# Altium footprint library Miscellaneous Devices LC.PcbLib: 559 footprints (part 12 of 35)
Each footprint in its own frame and in the unit in brackets; x right, y up, seen from the top. Pads: shape width x height; smd on the part's side, far side on the other; paste and mask are expansions set on the pad; w line width, h text height; cw(c..) or ccw(c..) is an arc to the next point about the centre after c.
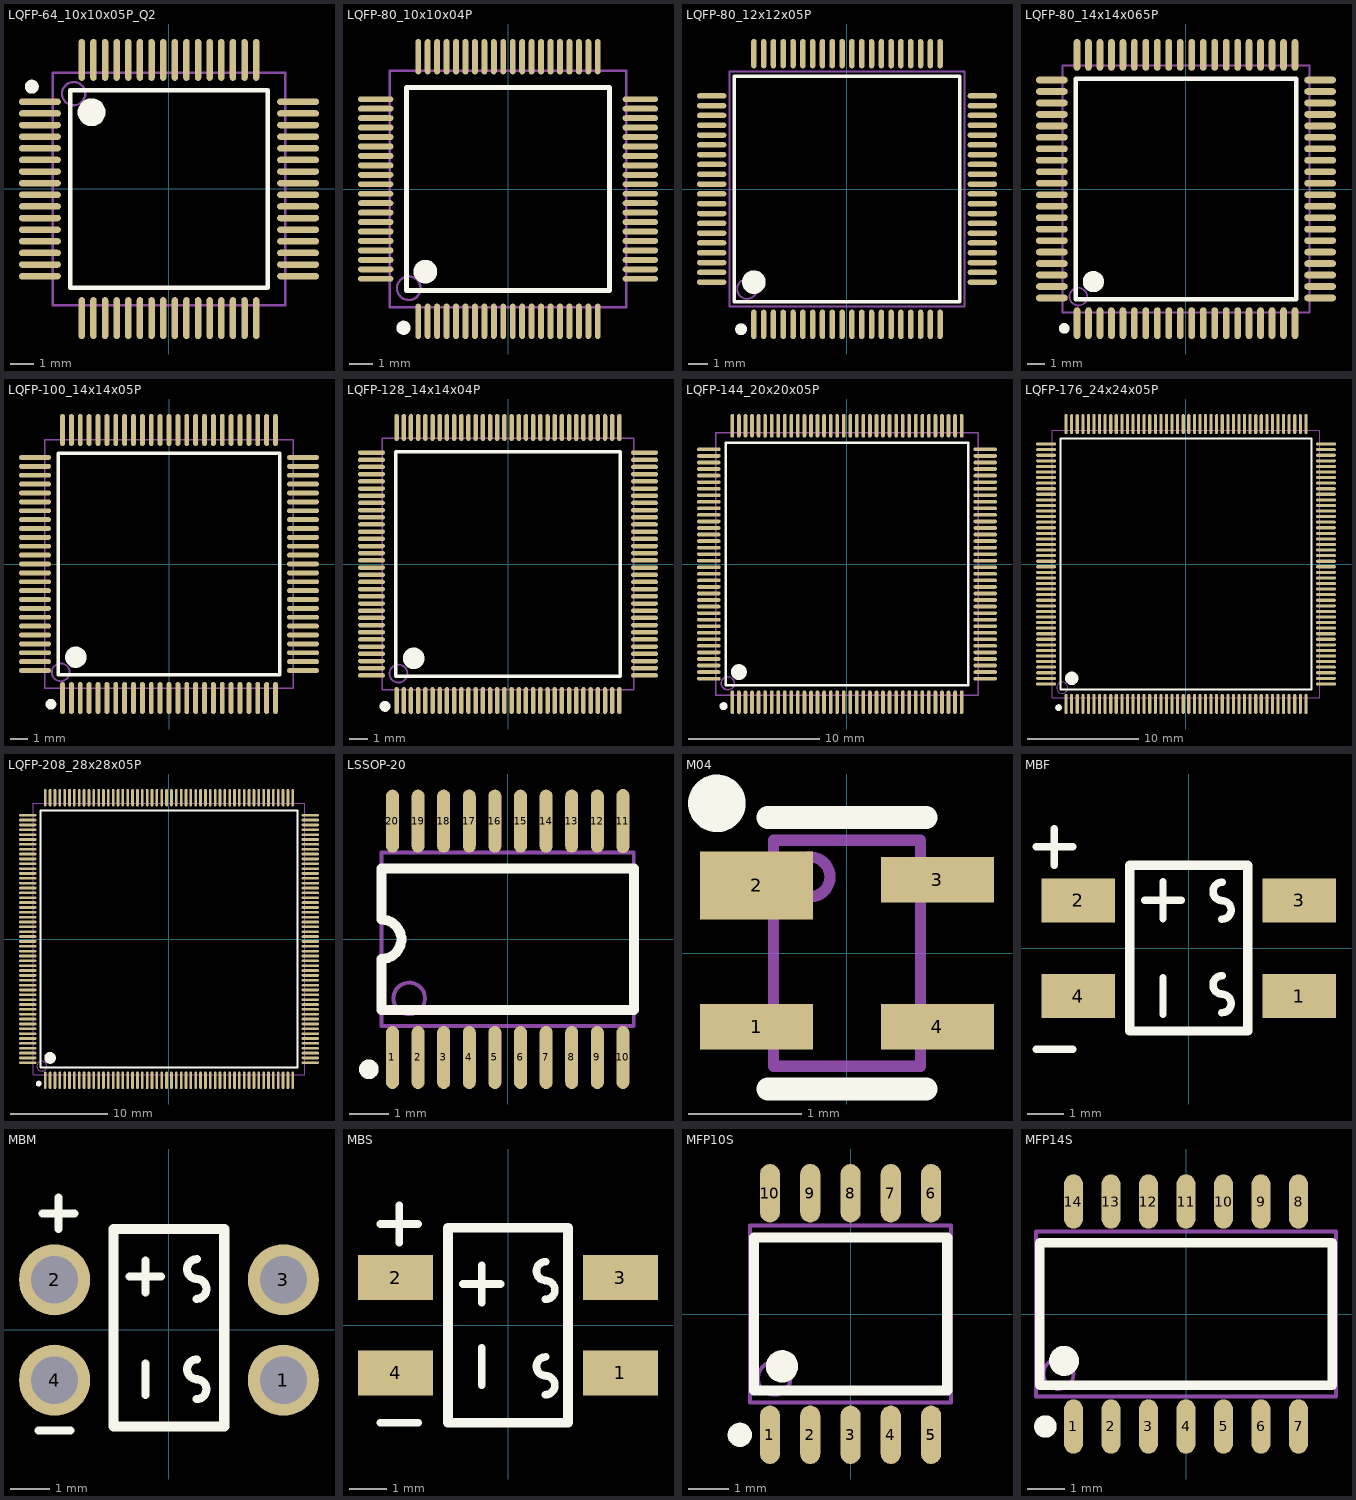
[diagram p11: the footprints below, top view; thin cyan lines are the x and y axes]

## LQFP-64_10x10x05P_Q2 [mm] "编带PIN1 在 Q2"
pads (64):
  oval 1.8x0.28 smd mask+0.051: 1(-5.55,3.75) 2(-5.55,3.25) 3(-5.55,2.75) 4(-5.55,2.25) 5(-5.55,1.75) 6(-5.55,1.25) 7(-5.55,0.75) 8(-5.55,0.25) 9(-5.55,-0.25) 10(-5.55,-0.75) 11(-5.55,-1.25) 12(-5.55,-1.75) 13(-5.55,-2.25) 14(-5.55,-2.75) 15(-5.55,-3.25) 16(-5.55,-3.75) 33(5.55,-3.75) 34(5.55,-3.25) 35(5.55,-2.75) 36(5.55,-2.25) 37(5.55,-1.75) 38(5.55,-1.25) 39(5.55,-0.75) 40(5.55,-0.25) 41(5.55,0.25) 42(5.55,0.75) 43(5.55,1.25) 44(5.55,1.75) 45(5.55,2.25) 46(5.55,2.75) 47(5.55,3.25) 48(5.55,3.75)
  oval 0.28x1.8 smd mask+0.051: 17(-3.75,-5.55) 18(-3.25,-5.55) 19(-2.75,-5.55) 20(-2.25,-5.55) 21(-1.75,-5.55) 22(-1.25,-5.55) 23(-0.75,-5.55) 24(-0.25,-5.55) 25(0.25,-5.55) 26(0.75,-5.55) 27(1.25,-5.55) 28(1.75,-5.55) 29(2.25,-5.55) 30(2.75,-5.55) 31(3.25,-5.55) 32(3.75,-5.55) 49(3.75,5.55) 50(3.25,5.55) 51(2.75,5.55) 52(2.25,5.55) 53(1.75,5.55) 54(1.25,5.55) 55(0.75,5.55) 56(0.25,5.55) 57(-0.25,5.55) 58(-0.75,5.55) 59(-1.25,5.55) 60(-1.75,5.55) 61(-2.25,5.55) 62(-2.75,5.55) 63(-3.25,5.55) 64(-3.75,5.55)
Top Overlay:
  circle w0.6: c-3.325,3.3 r0.3
  circle w0.3: c-5.9,4.4 r0.15
  lines w0.2: -4.25,-4.25 4.25,-4.25 4.25,4.25 -4.25,4.25 -4.25,-4.25
Mechanical 13:
  circle w0.1: c-4.1,4.1 r0.5
  lines w0.1: -5,-5 5,-5 5,5 -5,5 -5,-5
3D body "LQFP-64.STEP": height 1.6, standoff 0, extent -6,-6 6,6

## LQFP-80_10x10x04P [mm]
pads (80):
  oval 0.25x1.5 smd mask+0.051: 1(-3.8,-5.6) 2(-3.4,-5.6) 3(-3,-5.6) 4(-2.6,-5.6) 5(-2.2,-5.6) 6(-1.8,-5.6) 7(-1.4,-5.6) 8(-1,-5.6) 9(-0.6,-5.6) 10(-0.2,-5.6) 11(0.2,-5.6) 12(0.6,-5.6) 13(1,-5.6) 14(1.4,-5.6) 15(1.8,-5.6) 16(2.2,-5.6) 17(2.6,-5.6) 18(3,-5.6) 19(3.4,-5.6) 20(3.8,-5.6) 41(3.8,5.6) 42(3.4,5.6) 43(3,5.6) 44(2.6,5.6) 45(2.2,5.6) 46(1.8,5.6) 47(1.4,5.6) 48(1,5.6) 49(0.6,5.6) 50(0.2,5.6) 51(-0.2,5.6) 52(-0.6,5.6) 53(-1,5.6) 54(-1.4,5.6) 55(-1.8,5.6) 56(-2.2,5.6) 57(-2.6,5.6) 58(-3,5.6) 59(-3.4,5.6) 60(-3.8,5.6)
  oval 1.5x0.25 smd mask+0.051: 21(5.6,-3.8) 22(5.6,-3.4) 23(5.6,-3) 24(5.6,-2.6) 25(5.6,-2.2) 26(5.6,-1.8) 27(5.6,-1.4) 28(5.6,-1) 29(5.6,-0.6) 30(5.6,-0.2) 31(5.6,0.2) 32(5.6,0.6) 33(5.6,1) 34(5.6,1.4) 35(5.6,1.8) 36(5.6,2.2) 37(5.6,2.6) 38(5.6,3) 39(5.6,3.4) 40(5.6,3.8) 61(-5.6,3.8) 62(-5.6,3.4) 63(-5.6,3) 64(-5.6,2.6) 65(-5.6,2.2) 66(-5.6,1.8) 67(-5.6,1.4) 68(-5.6,1) 69(-5.6,0.6) 70(-5.6,0.2) 71(-5.6,-0.2) 72(-5.6,-0.6) 73(-5.6,-1) 74(-5.6,-1.4) 75(-5.6,-1.8) 76(-5.6,-2.2) 77(-5.6,-2.6) 78(-5.6,-3) 79(-5.6,-3.4) 80(-5.6,-3.8)
Top Overlay:
  circle w0.3: c-4.425,-5.875 r0.15
  circle w0.5: c-3.5,-3.5 r0.25
  lines w0.2: -4.3,-4.3 4.3,-4.3 4.3,4.3 -4.3,4.3 -4.3,-4.3
Mechanical 13:
  circle w0.1: c-4.2,-4.2 r0.5
  lines w0.1: -5,-5 5,-5 5,5 -5,5 -5,-5

## LQFP-80_12x12x05P [mm]
pads (80):
  oval 0.28x1.5 smd mask+0.051: 1(-4.75,-6.9) 2(-4.25,-6.9) 3(-3.75,-6.9) 4(-3.25,-6.9) 5(-2.75,-6.9) 6(-2.25,-6.9) 7(-1.75,-6.9) 8(-1.25,-6.9) 9(-0.75,-6.9) 10(-0.25,-6.9) 11(0.25,-6.9) 12(0.75,-6.9) 13(1.25,-6.9) 14(1.75,-6.9) 15(2.25,-6.9) 16(2.75,-6.9) 17(3.25,-6.9) 18(3.75,-6.9) 19(4.25,-6.9) 20(4.75,-6.9) 41(4.75,6.9) 42(4.25,6.9) 43(3.75,6.9) 44(3.25,6.9) 45(2.75,6.9) 46(2.25,6.9) 47(1.75,6.9) 48(1.25,6.9) 49(0.75,6.9) 50(0.25,6.9) 51(-0.25,6.9) 52(-0.75,6.9) 53(-1.25,6.9) 54(-1.75,6.9) 55(-2.25,6.9) 56(-2.75,6.9) 57(-3.25,6.9) 58(-3.75,6.9) 59(-4.25,6.9) 60(-4.75,6.9)
  oval 1.5x0.28 smd mask+0.051: 21(6.9,-4.75) 22(6.9,-4.25) 23(6.9,-3.75) 24(6.9,-3.25) 25(6.9,-2.75) 26(6.9,-2.25) 27(6.9,-1.75) 28(6.9,-1.25) 29(6.9,-0.75) 30(6.9,-0.25) 31(6.9,0.25) 32(6.9,0.75) 33(6.9,1.25) 34(6.9,1.75) 35(6.9,2.25) 36(6.9,2.75) 37(6.9,3.25) 38(6.9,3.75) 39(6.9,4.25) 40(6.9,4.75) 61(-6.9,4.75) 62(-6.9,4.25) 63(-6.9,3.75) 64(-6.9,3.25) 65(-6.9,2.75) 66(-6.9,2.25) 67(-6.9,1.75) 68(-6.9,1.25) 69(-6.9,0.75) 70(-6.9,0.25) 71(-6.9,-0.25) 72(-6.9,-0.75) 73(-6.9,-1.25) 74(-6.9,-1.75) 75(-6.9,-2.25) 76(-6.9,-2.75) 77(-6.9,-3.25) 78(-6.9,-3.75) 79(-6.9,-4.25) 80(-6.9,-4.75)
Top Overlay:
  circle w0.3: c-5.4,-7.15 r0.15
  circle w0.6: c-4.75,-4.75 r0.3
  lines w0.2: -5.75,-5.75 -5.75,5.75 5.75,5.75 5.75,-5.75 -5.75,-5.75
Mechanical 13:
  circle w0.1: c-5.1,-5.1 r0.5
  lines w0.1: -6,-6 -6,6 6,6 6,-6 -6,-6

## LQFP-80_14x14x065P [mm]
pads (80):
  oval 0.38x1.8 smd mask+0.051: 1(-6.175,-7.6) 2(-5.525,-7.6) 3(-4.875,-7.6) 4(-4.225,-7.6) 5(-3.575,-7.6) 6(-2.925,-7.6) 7(-2.275,-7.6) 8(-1.625,-7.6) 9(-0.975,-7.6) 10(-0.325,-7.6) 11(0.325,-7.6) 12(0.975,-7.6) 13(1.625,-7.6) 14(2.275,-7.6) 15(2.925,-7.6) 16(3.575,-7.6) 17(4.225,-7.6) 18(4.875,-7.6) 19(5.525,-7.6) 20(6.175,-7.6) 41(6.175,7.6) 42(5.525,7.6) 43(4.875,7.6) 44(4.225,7.6) 45(3.575,7.6) 46(2.925,7.6) 47(2.275,7.6) 48(1.625,7.6) 49(0.975,7.6) 50(0.325,7.6) 51(-0.325,7.6) 52(-0.975,7.6) 53(-1.625,7.6) 54(-2.275,7.6) 55(-2.925,7.6) 56(-3.575,7.6) 57(-4.225,7.6) 58(-4.875,7.6) 59(-5.525,7.6) 60(-6.175,7.6)
  oval 1.8x0.38 smd mask+0.051: 21(7.6,-6.175) 22(7.6,-5.525) 23(7.6,-4.875) 24(7.6,-4.225) 25(7.6,-3.575) 26(7.6,-2.925) 27(7.6,-2.275) 28(7.6,-1.625) 29(7.6,-0.975) 30(7.6,-0.325) 31(7.6,0.325) 32(7.6,0.975) 33(7.6,1.625) 34(7.6,2.275) 35(7.6,2.925) 36(7.6,3.575) 37(7.6,4.225) 38(7.6,4.875) 39(7.6,5.525) 40(7.6,6.175) 61(-7.6,6.175) 62(-7.6,5.525) 63(-7.6,4.875) 64(-7.6,4.225) 65(-7.6,3.575) 66(-7.6,2.925) 67(-7.6,2.275) 68(-7.6,1.625) 69(-7.6,0.975) 70(-7.6,0.325) 71(-7.6,-0.325) 72(-7.6,-0.975) 73(-7.6,-1.625) 74(-7.6,-2.275) 75(-7.6,-2.925) 76(-7.6,-3.575) 77(-7.6,-4.225) 78(-7.6,-4.875) 79(-7.6,-5.525) 80(-7.6,-6.175)
Top Overlay:
  circle w0.6: c-5.25,-5.25 r0.3
  circle w0.3: c-6.9,-7.9 r0.15
  lines w0.254: -6.25,-6.25 -6.25,6.25 6.25,6.25 6.25,-6.25 -6.25,-6.25
Mechanical 13:
  circle w0.1: c-6.1,-6.1 r0.5
  lines w0.1: -7,-7 -7,7 7,7 7,-7 -7,-7

## LQFP-100_14x14x05P [mm]
pads (100):
  oval 0.28x1.8 smd mask+0.051: 1(-6,-7.55) 2(-5.5,-7.55) 3(-5,-7.55) 4(-4.5,-7.55) 5(-4,-7.55) 6(-3.5,-7.55) 7(-3,-7.55) 8(-2.5,-7.55) 9(-2,-7.55) 10(-1.5,-7.55) 11(-1,-7.55) 12(-0.5,-7.55) 13(0,-7.55) 14(0.5,-7.55) 15(1,-7.55) 16(1.5,-7.55) 17(2,-7.55) 18(2.5,-7.55) 19(3,-7.55) 20(3.5,-7.55) 21(4,-7.55) 22(4.5,-7.55) 23(5,-7.55) 24(5.5,-7.55) 25(6,-7.55) 51(6,7.55) 52(5.5,7.55) 53(5,7.55) 54(4.5,7.55) 55(4,7.55) 56(3.5,7.55) 57(3,7.55) 58(2.5,7.55) 59(2,7.55) 60(1.5,7.55) 61(1,7.55) 62(0.5,7.55) 63(0,7.55) 64(-0.5,7.55) 65(-1,7.55) 66(-1.5,7.55) 67(-2,7.55) 68(-2.5,7.55) 69(-3,7.55) 70(-3.5,7.55) 71(-4,7.55) 72(-4.5,7.55) 73(-5,7.55) 74(-5.5,7.55) 75(-6,7.55)
  oval 1.8x0.28 smd mask+0.051: 26(7.55,-6) 27(7.55,-5.5) 28(7.55,-5) 29(7.55,-4.5) 30(7.55,-4) 31(7.55,-3.5) 32(7.55,-3) 33(7.55,-2.5) 34(7.55,-2) 35(7.55,-1.5) 36(7.55,-1) 37(7.55,-0.5) 38(7.55,0) 39(7.55,0.5) 40(7.55,1) 41(7.55,1.5) 42(7.55,2) 43(7.55,2.5) 44(7.55,3) 45(7.55,3.5) 46(7.55,4) 47(7.55,4.5) 48(7.55,5) 49(7.55,5.5) 50(7.55,6) 76(-7.55,6) 77(-7.55,5.5) 78(-7.55,5) 79(-7.55,4.5) 80(-7.55,4) 81(-7.55,3.5) 82(-7.55,3) 83(-7.55,2.5) 84(-7.55,2) 85(-7.55,1.5) 86(-7.55,1) 87(-7.55,0.5) 88(-7.55,0) 89(-7.55,-0.5) 90(-7.55,-1) 91(-7.55,-1.5) 92(-7.55,-2) 93(-7.55,-2.5) 94(-7.55,-3) 95(-7.55,-3.5) 96(-7.55,-4) 97(-7.55,-4.5) 98(-7.55,-5) 99(-7.55,-5.5) 100(-7.55,-6)
Top Overlay:
  circle w0.6: c-5.25,-5.25 r0.3
  circle w0.3: c-6.65,-7.9 r0.15
  lines w0.2: -6.25,-6.25 -6.25,6.25 6.25,6.25 6.25,-6.25 -6.25,-6.25
Mechanical 13:
  circle w0.1: c-6.1,-6.1 r0.5
  lines w0.1: -7,-7 -7,7 7,7 7,-7 -7,-7
3D body "LQFP-100.STEP": height 1.6, standoff 0, extent -8,-8 8,8

## LQFP-128_14x14x04P [mm]
pads (128):
  oval 0.25x1.5 smd mask+0.051: 1(-6.2,-7.6) 2(-5.8,-7.6) 3(-5.4,-7.6) 4(-5,-7.6) 5(-4.6,-7.6) 6(-4.2,-7.6) 7(-3.8,-7.6) 8(-3.4,-7.6) 9(-3,-7.6) 10(-2.6,-7.6) 11(-2.2,-7.6) 12(-1.8,-7.6) 13(-1.4,-7.6) 14(-1,-7.6) 15(-0.6,-7.6) 16(-0.2,-7.6) 17(0.2,-7.6) 18(0.6,-7.6) 19(1,-7.6) 20(1.4,-7.6) 21(1.8,-7.6) 22(2.2,-7.6) 23(2.6,-7.6) 24(3,-7.6) 25(3.4,-7.6) 26(3.8,-7.6) 27(4.2,-7.6) 28(4.6,-7.6) 29(5,-7.6) 30(5.4,-7.6) 31(5.8,-7.6) 32(6.2,-7.6) 65(6.2,7.6) 66(5.8,7.6) 67(5.4,7.6) 68(5,7.6) 69(4.6,7.6) 70(4.2,7.6) 71(3.8,7.6) 72(3.4,7.6) 73(3,7.6) 74(2.6,7.6) 75(2.2,7.6) 76(1.8,7.6) 77(1.4,7.6) 78(1,7.6) 79(0.6,7.6) 80(0.2,7.6) 81(-0.2,7.6) 82(-0.6,7.6) 83(-1,7.6) 84(-1.4,7.6) 85(-1.8,7.6) 86(-2.2,7.6) 87(-2.6,7.6) 88(-3,7.6) 89(-3.4,7.6) 90(-3.8,7.6) 91(-4.2,7.6) 92(-4.6,7.6) 93(-5,7.6) 94(-5.4,7.6) 95(-5.8,7.6) 96(-6.2,7.6)
  oval 1.5x0.25 smd mask+0.051: 33(7.6,-6.2) 34(7.6,-5.8) 35(7.6,-5.4) 36(7.6,-5) 37(7.6,-4.6) 38(7.6,-4.2) 39(7.6,-3.8) 40(7.6,-3.4) 41(7.6,-3) 42(7.6,-2.6) 43(7.6,-2.2) 44(7.6,-1.8) 45(7.6,-1.4) 46(7.6,-1) 47(7.6,-0.6) 48(7.6,-0.2) 49(7.6,0.2) 50(7.6,0.6) 51(7.6,1) 52(7.6,1.4) 53(7.6,1.8) 54(7.6,2.2) 55(7.6,2.6) 56(7.6,3) 57(7.6,3.4) 58(7.6,3.8) 59(7.6,4.2) 60(7.6,4.6) 61(7.6,5) 62(7.6,5.4) 63(7.6,5.8) 64(7.6,6.2) 97(-7.6,6.2) 98(-7.6,5.8) 99(-7.6,5.4) 100(-7.6,5) 101(-7.6,4.6) 102(-7.6,4.2) 103(-7.6,3.8) 104(-7.6,3.4) 105(-7.6,3) 106(-7.6,2.6) 107(-7.6,2.2) 108(-7.6,1.8) 109(-7.6,1.4) 110(-7.6,1) 111(-7.6,0.6) 112(-7.6,0.2) 113(-7.6,-0.2) 114(-7.6,-0.6) 115(-7.6,-1) 116(-7.6,-1.4) 117(-7.6,-1.8) 118(-7.6,-2.2) 119(-7.6,-2.6) 120(-7.6,-3) 121(-7.6,-3.4) 122(-7.6,-3.8) 123(-7.6,-4.2) 124(-7.6,-4.6) 125(-7.6,-5) 126(-7.6,-5.4) 127(-7.6,-5.8) 128(-7.6,-6.2)
Top Overlay:
  circle w0.6: c-5.25,-5.25 r0.3
  circle w0.3: c-6.85,-7.925 r0.15
  lines w0.2: -6.25,-6.25 6.25,-6.25 6.25,6.25 -6.25,6.25 -6.25,-6.25
Mechanical 13:
  circle w0.1: c-6.1,-6.1 r0.5
  lines w0.1: -7,-7 -7,7 7,7 7,-7 -7,-7

## LQFP-144_20x20x05P [mm]
pads (144):
  oval 0.28x1.8 smd mask+0.051: 1(-8.75,-10.55) 2(-8.25,-10.55) 3(-7.75,-10.55) 4(-7.25,-10.55) 5(-6.75,-10.55) 6(-6.25,-10.55) 7(-5.75,-10.55) 8(-5.25,-10.55) 9(-4.75,-10.55) 10(-4.25,-10.55) 11(-3.75,-10.55) 12(-3.25,-10.55) 13(-2.75,-10.55) 14(-2.25,-10.55) 15(-1.75,-10.55) 16(-1.25,-10.55) 17(-0.75,-10.55) 18(-0.25,-10.55) 19(0.25,-10.55) 20(0.75,-10.55) 21(1.25,-10.55) 22(1.75,-10.55) 23(2.25,-10.55) 24(2.75,-10.55) 25(3.25,-10.55) 26(3.75,-10.55) 27(4.25,-10.55) 28(4.75,-10.55) 29(5.25,-10.55) 30(5.75,-10.55) 31(6.25,-10.55) 32(6.75,-10.55) 33(7.25,-10.55) 34(7.75,-10.55) 35(8.25,-10.55) 36(8.75,-10.55) 73(8.75,10.55) 74(8.25,10.55) 75(7.75,10.55) 76(7.25,10.55) 77(6.75,10.55) 78(6.25,10.55) 79(5.75,10.55) 80(5.25,10.55) 81(4.75,10.55) 82(4.25,10.55) 83(3.75,10.55) 84(3.25,10.55) 85(2.75,10.55) 86(2.25,10.55) 87(1.75,10.55) 88(1.25,10.55) 89(0.75,10.55) 90(0.25,10.55) 91(-0.25,10.55) 92(-0.75,10.55) 93(-1.25,10.55) 94(-1.75,10.55) 95(-2.25,10.55) 96(-2.75,10.55) 97(-3.25,10.55) 98(-3.75,10.55) 99(-4.25,10.55) 100(-4.75,10.55) 101(-5.25,10.55) 102(-5.75,10.55) 103(-6.25,10.55) 104(-6.75,10.55) 105(-7.25,10.55) 106(-7.75,10.55) 107(-8.25,10.55) 108(-8.75,10.55)
  oval 1.8x0.28 smd mask+0.051: 37(10.55,-8.75) 38(10.55,-8.25) 39(10.55,-7.75) 40(10.55,-7.25) 41(10.55,-6.75) 42(10.55,-6.25) 43(10.55,-5.75) 44(10.55,-5.25) 45(10.55,-4.75) 46(10.55,-4.25) 47(10.55,-3.75) 48(10.55,-3.25) 49(10.55,-2.75) 50(10.55,-2.25) 51(10.55,-1.75) 52(10.55,-1.25) 53(10.55,-0.75) 54(10.55,-0.25) 55(10.55,0.25) 56(10.55,0.75) 57(10.55,1.25) 58(10.55,1.75) 59(10.55,2.25) 60(10.55,2.75) 61(10.55,3.25) 62(10.55,3.75) 63(10.55,4.25) 64(10.55,4.75) 65(10.55,5.25) 66(10.55,5.75) 67(10.55,6.25) 68(10.55,6.75) 69(10.55,7.25) 70(10.55,7.75) 71(10.55,8.25) 72(10.55,8.75) 109(-10.55,8.75) 110(-10.55,8.25) 111(-10.55,7.75) 112(-10.55,7.25) 113(-10.55,6.75) 114(-10.55,6.25) 115(-10.55,5.75) 116(-10.55,5.25) 117(-10.55,4.75) 118(-10.55,4.25) 119(-10.55,3.75) 120(-10.55,3.25) 121(-10.55,2.75) 122(-10.55,2.25) 123(-10.55,1.75) 124(-10.55,1.25) 125(-10.55,0.75) 126(-10.55,0.25) 127(-10.55,-0.25) 128(-10.55,-0.75) 129(-10.55,-1.25) 130(-10.55,-1.75) 131(-10.55,-2.25) 132(-10.55,-2.75) 133(-10.55,-3.25) 134(-10.55,-3.75) 135(-10.55,-4.25) 136(-10.55,-4.75) 137(-10.55,-5.25) 138(-10.55,-5.75) 139(-10.55,-6.25) 140(-10.55,-6.75) 141(-10.55,-7.25) 142(-10.55,-7.75) 143(-10.55,-8.25) 144(-10.55,-8.75)
Top Overlay:
  circle w0.6: c-8.25,-8.25 r0.3
  circle w0.3: c-9.425,-10.85 r0.15
  lines w0.2: -9.25,-9.25 9.25,-9.25 9.25,9.25 -9.25,9.25 -9.25,-9.25
Mechanical 13:
  circle w0.1: c-9.1,-9.1 r0.5
  lines w0.1: -10,-10 10,-10 10,10 -10,10 -10,-10
3D body "LQFP20X20-144.STEP": height 1.6, standoff 0, extent -11,-11 11,11

## LQFP-176_24x24x05P [mm]
pads (176):
  oval 0.28x1.8 smd mask+0.051: 1(-10.75,-12.55) 2(-10.25,-12.55) 3(-9.75,-12.55) 4(-9.25,-12.55) 5(-8.75,-12.55) 6(-8.25,-12.55) 7(-7.75,-12.55) 8(-7.25,-12.55) 9(-6.75,-12.55) 10(-6.25,-12.55) 11(-5.75,-12.55) 12(-5.25,-12.55) 13(-4.75,-12.55) 14(-4.25,-12.55) 15(-3.75,-12.55) 16(-3.25,-12.55) 17(-2.75,-12.55) 18(-2.25,-12.55) 19(-1.75,-12.55) 20(-1.25,-12.55) 21(-0.75,-12.55) 22(-0.25,-12.55) 23(0.25,-12.55) 24(0.75,-12.55) 25(1.25,-12.55) 26(1.75,-12.55) 27(2.25,-12.55) 28(2.75,-12.55) 29(3.25,-12.55) 30(3.75,-12.55) 31(4.25,-12.55) 32(4.75,-12.55) 33(5.25,-12.55) 34(5.75,-12.55) 35(6.25,-12.55) 36(6.75,-12.55) 37(7.25,-12.55) 38(7.75,-12.55) 39(8.25,-12.55) 40(8.75,-12.55) 41(9.25,-12.55) 42(9.75,-12.55) 43(10.25,-12.55) 44(10.75,-12.55) 89(10.75,12.55) 90(10.25,12.55) 91(9.75,12.55) 92(9.25,12.55) 93(8.75,12.55) 94(8.25,12.55) 95(7.75,12.55) 96(7.25,12.55) 97(6.75,12.55) 98(6.25,12.55) 99(5.75,12.55) 100(5.25,12.55) 101(4.75,12.55) 102(4.25,12.55) 103(3.75,12.55) 104(3.25,12.55) 105(2.75,12.55) 106(2.25,12.55) 107(1.75,12.55) 108(1.25,12.55) 109(0.75,12.55) 110(0.25,12.55) 111(-0.25,12.55) 112(-0.75,12.55) 113(-1.25,12.55) 114(-1.75,12.55) 115(-2.25,12.55) 116(-2.75,12.55) 117(-3.25,12.55) 118(-3.75,12.55) 119(-4.25,12.55) 120(-4.75,12.55) 121(-5.25,12.55) 122(-5.75,12.55) 123(-6.25,12.55) 124(-6.75,12.55) 125(-7.25,12.55) 126(-7.75,12.55) 127(-8.25,12.55) 128(-8.75,12.55) 129(-9.25,12.55) 130(-9.75,12.55) 131(-10.25,12.55) 132(-10.75,12.55)
  oval 1.8x0.28 smd mask+0.051: 45(12.55,-10.75) 46(12.55,-10.25) 47(12.55,-9.75) 48(12.55,-9.25) 49(12.55,-8.75) 50(12.55,-8.25) 51(12.55,-7.75) 52(12.55,-7.25) 53(12.55,-6.75) 54(12.55,-6.25) 55(12.55,-5.75) 56(12.55,-5.25) 57(12.55,-4.75) 58(12.55,-4.25) 59(12.55,-3.75) 60(12.55,-3.25) 61(12.55,-2.75) 62(12.55,-2.25) 63(12.55,-1.75) 64(12.55,-1.25) 65(12.55,-0.75) 66(12.55,-0.25) 67(12.55,0.25) 68(12.55,0.75) 69(12.55,1.25) 70(12.55,1.75) 71(12.55,2.25) 72(12.55,2.75) 73(12.55,3.25) 74(12.55,3.75) 75(12.55,4.25) 76(12.55,4.75) 77(12.55,5.25) 78(12.55,5.75) 79(12.55,6.25) 80(12.55,6.75) 81(12.55,7.25) 82(12.55,7.75) 83(12.55,8.25) 84(12.55,8.75) 85(12.55,9.25) 86(12.55,9.75) 87(12.55,10.25) 88(12.55,10.75) 133(-12.55,10.75) 134(-12.55,10.25) 135(-12.55,9.75) 136(-12.55,9.25) 137(-12.55,8.75) 138(-12.55,8.25) 139(-12.55,7.75) 140(-12.55,7.25) 141(-12.55,6.75) 142(-12.55,6.25) 143(-12.55,5.75) 144(-12.55,5.25) 145(-12.55,4.75) 146(-12.55,4.25) 147(-12.55,3.75) 148(-12.55,3.25) 149(-12.55,2.75) 150(-12.55,2.25) 151(-12.55,1.75) 152(-12.55,1.25) 153(-12.55,0.75) 154(-12.55,0.25) 155(-12.55,-0.25) 156(-12.55,-0.75) 157(-12.55,-1.25) 158(-12.55,-1.75) 159(-12.55,-2.25) 160(-12.55,-2.75) 161(-12.55,-3.25) 162(-12.55,-3.75) 163(-12.55,-4.25) 164(-12.55,-4.75) 165(-12.55,-5.25) 166(-12.55,-5.75) 167(-12.55,-6.25) 168(-12.55,-6.75) 169(-12.55,-7.25) 170(-12.55,-7.75) 171(-12.55,-8.25) 172(-12.55,-8.75) 173(-12.55,-9.25) 174(-12.55,-9.75) 175(-12.55,-10.25) 176(-12.55,-10.75)
Top Overlay:
  circle w0.6: c-10.25,-10.25 r0.3
  circle w0.3: c-11.425,-12.875 r0.15
  lines w0.2: -11.25,-11.25 -11.25,11.25 11.25,11.25 11.25,-11.25 -11.25,-11.25
Mechanical 13:
  circle w0.1: c-11.1,-11.1 r0.5
  lines w0.1: -12,-12 -12,12 12,12 12,-12 -12,-12

## LQFP-208_28x28x05P [mm]
pads (208):
  oval 0.28x1.8 smd mask+0.051: 1(-12.75,-14.55) 2(-12.25,-14.55) 3(-11.75,-14.55) 4(-11.25,-14.55) 5(-10.75,-14.55) 6(-10.25,-14.55) 7(-9.75,-14.55) 8(-9.25,-14.55) 9(-8.75,-14.55) 10(-8.25,-14.55) 11(-7.75,-14.55) 12(-7.25,-14.55) 13(-6.75,-14.55) 14(-6.25,-14.55) 15(-5.75,-14.55) 16(-5.25,-14.55) 17(-4.75,-14.55) 18(-4.25,-14.55) 19(-3.75,-14.55) 20(-3.25,-14.55) 21(-2.75,-14.55) 22(-2.25,-14.55) 23(-1.75,-14.55) 24(-1.25,-14.55) 25(-0.75,-14.55) 26(-0.25,-14.55) 27(0.25,-14.55) 28(0.75,-14.55) 29(1.25,-14.55) 30(1.75,-14.55) 31(2.25,-14.55) 32(2.75,-14.55) 33(3.25,-14.55) 34(3.75,-14.55) 35(4.25,-14.55) 36(4.75,-14.55) 37(5.25,-14.55) 38(5.75,-14.55) 39(6.25,-14.55) 40(6.75,-14.55) 41(7.25,-14.55) 42(7.75,-14.55) 43(8.25,-14.55) 44(8.75,-14.55) 45(9.25,-14.55) 46(9.75,-14.55) 47(10.25,-14.55) 48(10.75,-14.55) 49(11.25,-14.55) 50(11.75,-14.55) 51(12.25,-14.55) 52(12.75,-14.55) 105(12.75,14.55) 106(12.25,14.55) 107(11.75,14.55) 108(11.25,14.55) 109(10.75,14.55) 110(10.25,14.55) 111(9.75,14.55) 112(9.25,14.55) 113(8.75,14.55) 114(8.25,14.55) 115(7.75,14.55) 116(7.25,14.55) 117(6.75,14.55) 118(6.25,14.55) 119(5.75,14.55) 120(5.25,14.55) 121(4.75,14.55) 122(4.25,14.55) 123(3.75,14.55) 124(3.25,14.55) 125(2.75,14.55) 126(2.25,14.55) 127(1.75,14.55) 128(1.25,14.55) 129(0.75,14.55) 130(0.25,14.55) 131(-0.25,14.55) 132(-0.75,14.55) 133(-1.25,14.55) 134(-1.75,14.55) 135(-2.25,14.55) 136(-2.75,14.55) 137(-3.25,14.55) 138(-3.75,14.55) 139(-4.25,14.55) 140(-4.75,14.55) 141(-5.25,14.55) 142(-5.75,14.55) 143(-6.25,14.55) 144(-6.75,14.55) 145(-7.25,14.55) 146(-7.75,14.55) 147(-8.25,14.55) 148(-8.75,14.55) 149(-9.25,14.55) 150(-9.75,14.55) 151(-10.25,14.55) 152(-10.75,14.55) 153(-11.25,14.55) 154(-11.75,14.55) 155(-12.25,14.55) 156(-12.75,14.55)
  oval 1.8x0.28 smd mask+0.051: 53(14.55,-12.75) 54(14.55,-12.25) 55(14.55,-11.75) 56(14.55,-11.25) 57(14.55,-10.75) 58(14.55,-10.25) 59(14.55,-9.75) 60(14.55,-9.25) 61(14.55,-8.75) 62(14.55,-8.25) 63(14.55,-7.75) 64(14.55,-7.25) 65(14.55,-6.75) 66(14.55,-6.25) 67(14.55,-5.75) 68(14.55,-5.25) 69(14.55,-4.75) 70(14.55,-4.25) 71(14.55,-3.75) 72(14.55,-3.25) 73(14.55,-2.75) 74(14.55,-2.25) 75(14.55,-1.75) 76(14.55,-1.25) 77(14.55,-0.75) 78(14.55,-0.25) 79(14.55,0.25) 80(14.55,0.75) 81(14.55,1.25) 82(14.55,1.75) 83(14.55,2.25) 84(14.55,2.75) 85(14.55,3.25) 86(14.55,3.75) 87(14.55,4.25) 88(14.55,4.75) 89(14.55,5.25) 90(14.55,5.75) 91(14.55,6.25) 92(14.55,6.75) 93(14.55,7.25) 94(14.55,7.75) 95(14.55,8.25) 96(14.55,8.75) 97(14.55,9.25) 98(14.55,9.75) 99(14.55,10.25) 100(14.55,10.75) 101(14.55,11.25) 102(14.55,11.75) 103(14.55,12.25) 104(14.55,12.75) 157(-14.55,12.75) 158(-14.55,12.25) 159(-14.55,11.75) 160(-14.55,11.25) 161(-14.55,10.75) 162(-14.55,10.25) 163(-14.55,9.75) 164(-14.55,9.25) 165(-14.55,8.75) 166(-14.55,8.25) 167(-14.55,7.75) 168(-14.55,7.25) 169(-14.55,6.75) 170(-14.55,6.25) 171(-14.55,5.75) 172(-14.55,5.25) 173(-14.55,4.75) 174(-14.55,4.25) 175(-14.55,3.75) 176(-14.55,3.25) 177(-14.55,2.75) 178(-14.55,2.25) 179(-14.55,1.75) 180(-14.55,1.25) 181(-14.55,0.75) 182(-14.55,0.25) 183(-14.55,-0.25) 184(-14.55,-0.75) 185(-14.55,-1.25) 186(-14.55,-1.75) 187(-14.55,-2.25) 188(-14.55,-2.75) 189(-14.55,-3.25) 190(-14.55,-3.75) 191(-14.55,-4.25) 192(-14.55,-4.75) 193(-14.55,-5.25) 194(-14.55,-5.75) 195(-14.55,-6.25) 196(-14.55,-6.75) 197(-14.55,-7.25) 198(-14.55,-7.75) 199(-14.55,-8.25) 200(-14.55,-8.75) 201(-14.55,-9.25) 202(-14.55,-9.75) 203(-14.55,-10.25) 204(-14.55,-10.75) 205(-14.55,-11.25) 206(-14.55,-11.75) 207(-14.55,-12.25) 208(-14.55,-12.75)
Top Overlay:
  circle w0.6: c-12.25,-12.25 r0.3
  circle w0.3: c-13.425,-14.9 r0.15
  lines w0.2: -13.25,-13.25 13.25,-13.25 13.25,13.25 -13.25,13.25 -13.25,-13.25
Mechanical 13:
  circle w0.1: c-13.1,-13.1 r0.5
  lines w0.1: -14,-14 14,-14 14,14 -14,14 -14,-14

## LSSOP-20 [mm]
pads (20):
  oval 0.33x1.6 smd: 1(-2.925,-3) 2(-2.275,-3) 3(-1.625,-3) 4(-0.975,-3) 5(-0.325,-3) 6(0.325,-3) 7(0.975,-3) 8(1.625,-3) 9(2.275,-3) 10(2.925,-3) 12(2.275,3) 13(1.625,3) 14(0.975,3) 15(0.325,3) 16(-0.325,3) 17(-0.975,3) 18(-1.625,3) 19(-2.275,3) 20(-2.925,3)
  oval 0.33x1.63 smd: 11(2.925,3)
Top Overlay:
  circle w0.25: c-3.525,-3.3 r0.125
  lines w0.254: -3.2,-1.8 3.2,-1.8 3.2,1.8 -3.2,1.8 -3.2,0.5 cw(c-3.2,0) -3.2,-0.5 -3.2,-1.8
Mechanical 13:
  circle w0.1: c-2.5,-1.5 r0.4
  lines w0.1: -3.2,-2.2 3.2,-2.2 3.2,2.2 -3.2,2.2 -3.2,-2.2

## M04 [mm]
pads (4):
  rect 1x0.4 smd: 1(-0.8,-0.65) 3(0.8,0.65) 4(0.8,-0.65)
  rect 1x0.6 smd: 2(-0.8,0.6)
Top Overlay:
  circle w0.254: c-1.15,1.325 r0.127
  lines w0.2: -0.7,-1.2 0.7,-1.2 ; -0.7,1.2 0.7,1.2
Mechanical 13:
  circle w0.1: c-0.325,0.675 r0.175
  lines w0.1: -0.65,-1 0.65,-1 0.65,1 -0.65,1 -0.65,-1

## MBF [mm]
pads (4):
  rect 2x1.2 smd: 1(3,-1.3) 2(-3,1.3) 3(3,1.3) 4(-3,-1.3)
Top Overlay:
  lines w0.203: -4.15,-2.75 -3.15,-2.75 ; -4.15,2.75 -3.15,2.75 ; -3.65,2.25 -3.65,3.25 ; -1.2,1.3 -0.2,1.3 ; -0.7,-1.8 -0.7,-0.8 ; -0.7,0.8 -0.7,1.8 ; 0.9,-1.75 ccw(c0.9,-1.5) 0.9,-1.25 ; 0.9,0.79 ccw(c0.9,1.04) 0.9,1.29 ; 0.908,-1.245 cw(c0.908,-0.995) 0.908,-0.745 ; 0.908,1.295 cw(c0.908,1.545) 0.908,1.795
  lines w0.254: -1.6,-2.25 1.6,-2.25 1.6,2.25 -1.6,2.25 -1.6,-2.25
3D body "MBF.STEP": height 1.5, standoff -0.03, extent -3.4,-2.497 3.5,2.497

## MBM [mm]
pads (4):
  round 1.8 hole 1.2: 1(2.9,-1.27) 2(-2.9,1.27) 3(2.9,1.27) 4(-2.9,-1.27)
Top Overlay:
  lines w0.203: -3.3,-2.545 -2.5,-2.545 ; -3.2,2.955 -2.4,2.955 ; -2.8,2.555 -2.8,3.355 ; -1,1.355 -0.2,1.355 ; -0.6,-1.645 -0.6,-0.845 ; -0.6,0.955 -0.6,1.755 ; 0.7,-1.75 ccw(c0.7,-1.5) 0.7,-1.25 ; 0.7,0.79 ccw(c0.7,1.04) 0.7,1.29 ; 0.708,-1.245 cw(c0.708,-0.995) 0.708,-0.745 ; 0.708,1.295 cw(c0.708,1.545) 0.708,1.795
  lines w0.254: -1.4,-2.445 1.4,-2.445 1.4,2.555 -1.4,2.555 -1.4,-2.445

## MBS [mm]
pads (4):
  rect 2x1.2 smd: 1(3,-1.27) 2(-3,1.27) 3(3,1.27) 4(-3,-1.27)
Top Overlay:
  lines w0.203: -3.4,-2.6 -2.4,-2.6 ; -3.4,2.7 -2.4,2.7 ; -2.9,2.2 -2.9,3.2 ; -1.2,1.1 -0.2,1.1 ; -0.7,-1.6 -0.7,-0.6 ; -0.7,0.6 -0.7,1.6 ; 1,-1.85 ccw(c1,-1.6) 1,-1.35 ; 1,0.69 ccw(c1,0.94) 1,1.19 ; 1.008,-1.345 cw(c1.008,-1.095) 1.008,-0.845 ; 1.008,1.195 cw(c1.008,1.445) 1.008,1.695
  lines w0.254: -1.6,-2.6 -1.6,2.6 1.6,2.6 1.6,-2.6 -1.6,-2.6

## MFP10S [mm] "MFP10S(K)"
pads (10):
  oval 0.5x1.45 smd: 1(-2,-3) 2(-1,-3) 3(0,-3) 4(1,-3) 5(2,-3) 6(2,3) 7(1,3) 8(0,3) 9(-1,3) 10(-2,3)
Top Overlay:
  circle w0.4: c-1.7,-1.3 r0.2
  circle w0.3: c-2.75,-3 r0.15
  lines w0.254: -2.4,-1.9 -2.4,1.9 2.4,1.9 2.4,-1.9 -2.4,-1.9
Mechanical 13:
  circle w0.1: c-1.9,-1.6 r0.403
  lines w0.1: -2.5,-2.2 -2.5,2.2 2.5,2.2 2.5,-2.2 -2.5,-2.2

## MFP14S [mm] "MFP14S(K)"
pads (14):
  oval 0.5x1.45 smd: 1(-3,-3) 2(-2,-3) 3(-1,-3) 4(0,-3) 5(1,-3) 6(2,-3) 7(3,-3) 8(3,3) 9(2,3) 10(1,3) 11(0,3) 12(-1,3) 13(-2,3) 14(-3,3)
Top Overlay:
  circle w0.4: c-3.25,-1.25 r0.2
  circle w0.3: c-3.75,-3 r0.15
  lines w0.254: -3.9,-1.9 -3.9,1.9 3.9,1.9 3.9,-1.9 -3.9,-1.9
Mechanical 13:
  circle w0.1: c-3.4,-1.6 r0.4
  lines w0.1: -4,-2.2 4,-2.2 4,2.2 -4,2.2 -4,-2.2